# EAGLE library part TC191* (library infineon-tricore)
32 bit TriCore based microcontroller/DSP which is mainly designed for automotive telematics applications. Source: http://www.infineon.com .. TC1910_DS_V1.0.pdf / TC1912_DS_V1.0.pdf
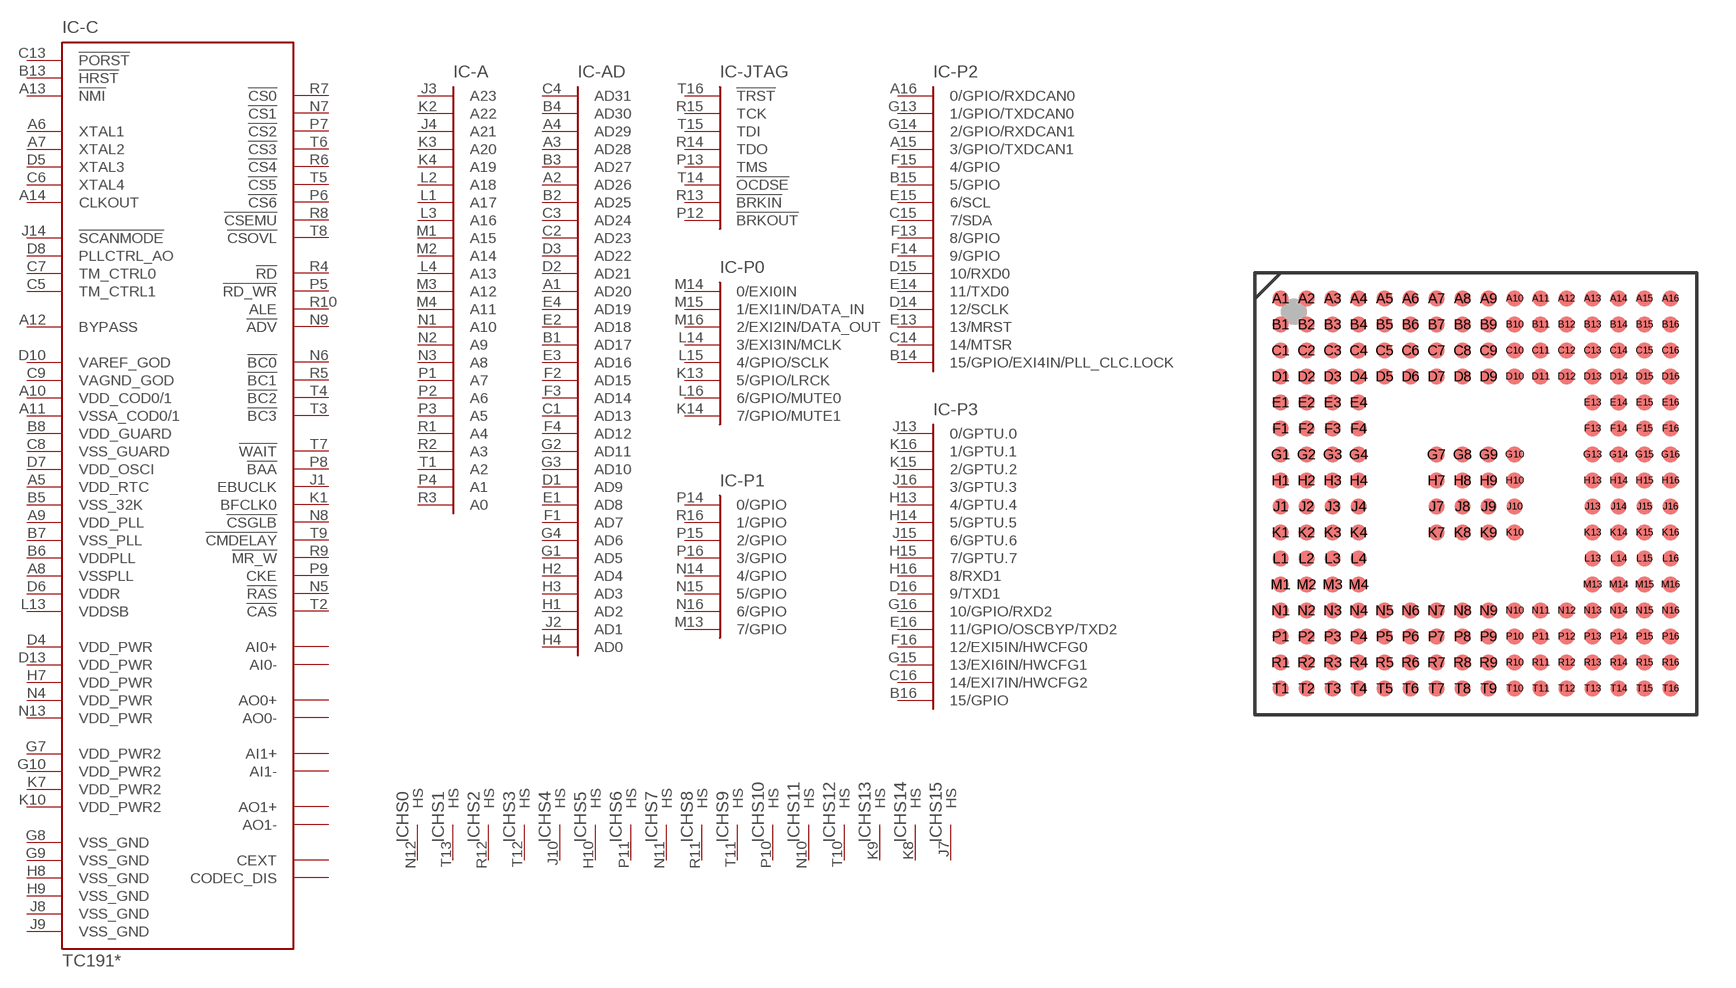
[diagram p7: symbol with the pads of P-LBGA-208-2; footprint P-LBGA-208-2]

Designator prefix IC; gates -C=TC1910 -JTAG=JTAG-OCSD -P0=PORT0-10_12 -P1=PORT1-10_12 -P2=PORT2-10_12 -P3=PORT3-10_12 HS1=HEATSINK HS2=HEATSINK HS3=HEATSINK HS4=HEATSINK HS5=HEATSINK HS6=HEATSINK HS7=HEATSINK HS8=HEATSINK HS9=HEATSINK HS10=HEATSINK HS11=HEATSINK HS12=HEATSINK HS13=HEATSINK HS14=HEATSINK HS15=HEATSINK HS0=HEATSINK -A=A23 -AD=AD31

## TC1910, TC1912  [P-LBGA-208-2]
A1  -AD:AD20
A2  -AD:AD26
A3  -AD:AD28
A4  -AD:AD29
A5  -C:VDD_RTC  in
A6  -C:XTAL1  in
A7  -C:XTAL2  out
A8  -C:VSSPLL  in
A9  -C:VDD_PLL  in
A10  -C:VDD_COD0/1  in
A11  -C:VSSA_COD0/1  in
A12  -C:BYPASS  in
A13  -C:!NMI  in
A14  -C:CLKOUT  out
A15  -P2:3/GPIO/TXDCAN1
A16  -P2:0/GPIO/RXDCAN0
B1  -AD:AD17
B2  -AD:AD25
B3  -AD:AD27
B4  -AD:AD30
B5  -C:VSS_32K  in
B6  -C:VDDPLL  in
B7  -C:VSS_PLL  in
B8  -C:VDD_GUARD  in
B9  -C:AI0-  in
B10  -C:AI1-  in
B11  -C:AO1+  out
B12  -C:AO0-  out
B13  -C:!HRST
B14  -P2:15/GPIO/EXI4IN/PLL_CLC.LOCK
B15  -P2:5/GPIO
B16  -P3:15/GPIO
C1  -AD:AD13
C2  -AD:AD23
C3  -AD:AD24
C4  -AD:AD31
C5  -C:TM_CTRL1  in
C6  -C:XTAL4  out
C7  -C:TM_CTRL0  in
C8  -C:VSS_GUARD  in
C9  -C:VAGND_GOD  in
C10  -C:AI1+  in
C11  -C:AO0+  out
C12  -C:CODEC_DIS  in
C13  -C:!PORST  in
C14  -P2:14/MTSR
C15  -P2:7/SDA
C16  -P3:14/EXI7IN/HWCFG2
D1  -AD:AD9
D2  -AD:AD21
D3  -AD:AD22
D4  -C:VDD_PWR  in
D5  -C:XTAL3  in
D6  -C:VDDR  in
D7  -C:VDD_OSCI  in
D8  -C:PLLCTRL_AO  in
D9  -C:AI0+  in
D10  -C:VAREF_GOD  in
D11  -C:AO1-  out
D12  -C:CEXT  in
D13  -C:VDD_PWR  in
D14  -P2:12/SCLK
D15  -P2:10/RXD0
D16  -P3:9/TXD1
E1  -AD:AD8
E2  -AD:AD18
E3  -AD:AD16
E4  -AD:AD19
E13  -P2:13/MRST
E14  -P2:11/TXD0
E15  -P2:6/SCL
E16  -P3:11/GPIO/OSCBYP/TXD2
F1  -AD:AD7
F2  -AD:AD15
F3  -AD:AD14
F4  -AD:AD12
F13  -P2:8/GPIO
F14  -P2:9/GPIO
F15  -P2:4/GPIO
F16  -P3:12/EXI5IN/HWCFG0
G1  -AD:AD5
G2  -AD:AD11
G3  -AD:AD10
G4  -AD:AD6
G7  -C:VDD_PWR2  in
G8  -C:VSS_GND  in
G9  -C:VSS_GND  in
G10  -C:VDD_PWR2  in
G13  -P2:1/GPIO/TXDCAN0
G14  -P2:2/GPIO/RXDCAN1
G15  -P3:13/EXI6IN/HWCFG1
G16  -P3:10/GPIO/RXD2
H1  -AD:AD2
H2  -AD:AD4
H3  -AD:AD3
H4  -AD:AD0
H7  -C:VDD_PWR  in
H8  -C:VSS_GND  in
H9  -C:VSS_GND  in
H10  HS5:HS  in
H13  -P3:4/GPTU.4
H14  -P3:5/GPTU.5
H15  -P3:7/GPTU.7
H16  -P3:8/RXD1
J1  -C:EBUCLK  out
J2  -AD:AD1
J3  -A:A23  out
J4  -A:A21  out
J7  HS15:HS  in
J8  -C:VSS_GND  in
J9  -C:VSS_GND  in
J10  HS4:HS  in
J13  -P3:0/GPTU.0
J14  -C:!SCANMODE  in
J15  -P3:6/GPTU.6
J16  -P3:3/GPTU.3
K1  -C:BFCLK0  out
K2  -A:A22  out
K3  -A:A20  out
K4  -A:A19  out
K7  -C:VDD_PWR2  in
K8  HS14:HS  in
K9  HS13:HS  in
K10  -C:VDD_PWR2  in
K13  -P0:5/GPIO/LRCK
K14  -P0:7/GPIO/MUTE1
K15  -P3:2/GPTU.2
K16  -P3:1/GPTU.1
L1  -A:A17  out
L2  -A:A18  out
L3  -A:A16  out
L4  -A:A13  out
L13  -C:VDDSB  in
L14  -P0:3/EXI3IN/MCLK
L15  -P0:4/GPIO/SCLK
L16  -P0:6/GPIO/MUTE0
M1  -A:A15  out
M2  -A:A14  out
M3  -A:A12  out
M4  -A:A11  out
M13  -P1:7/GPIO
M14  -P0:0/EXI0IN
M15  -P0:1/EXI1IN/DATA_IN
M16  -P0:2/EXI2IN/DATA_OUT
N1  -A:A10  out
N2  -A:A9  out
N3  -A:A8  out
N4  -C:VDD_PWR  in
N5  -C:!RAS  out
N6  -C:!BC0
N7  -C:!CS1  out
N8  -C:!CSGLB  out
N9  -C:!ADV  out
N10  HS11:HS  in
N11  HS7:HS  in
N12  HS0:HS  in
N13  -C:VDD_PWR  in
N14  -P1:4/GPIO
N15  -P1:5/GPIO
N16  -P1:6/GPIO
P1  -A:A7  out
P2  -A:A6  out
P3  -A:A5  out
P4  -A:A1  out
P5  -C:!RD_WR
P6  -C:!CS6  out
P7  -C:!CS2  out
P8  -C:!BAA  out
P9  -C:CKE  out
P10  HS10:HS  in
P11  HS6:HS  in
P12  -JTAG:!BRKOUT  out
P13  -JTAG:TMS  in
P14  -P1:0/GPIO
P15  -P1:2/GPIO
P16  -P1:3/GPIO
R1  -A:A4  out
R2  -A:A3  out
R3  -A:A0  out
R4  -C:!RD
R5  -C:!BC1
R6  -C:!CS4  out
R7  -C:!CS0  out
R8  -C:!CSEMU  out
R9  -C:!MR_W  out
R10  -C:ALE  out
R11  HS8:HS  in
R12  HS2:HS  in
R13  -JTAG:!BRKIN  in
R14  -JTAG:TDO  out
R15  -JTAG:TCK  in
R16  -P1:1/GPIO
T1  -A:A2  out
T2  -C:!CAS  out
T3  -C:!BC3
T4  -C:!BC2
T5  -C:!CS5  out
T6  -C:!CS3  out
T7  -C:!WAIT
T8  -C:!CSOVL  out
T9  -C:!CMDELAY  in
T10  HS12:HS  in
T11  HS9:HS  in
T12  HS3:HS  in
T13  HS1:HS  in
T14  -JTAG:!OCDSE  in
T15  -JTAG:TDI  in
T16  -JTAG:!TRST  in

## Footprint P-LBGA-208-2 (pad centres in mm)
P-LBGA-208-2 Low Profile Plastic Ball Grid Array Package Source: http://www.infineon.com .. TC1130_DS_v031.pdf
smd 0.6 x 0.6: A1 -7.5,7.5; A2 -6.5,7.5; A3 -5.5,7.5; A4 -4.5,7.5; A5 -3.5,7.5; A6 -2.5,7.5; A7 -1.5,7.5; A8 -0.5,7.5; A9 0.5,7.5; A10 1.5,7.5; A11 2.5,7.5; A12 3.5,7.5; A13 4.5,7.5; A14 5.5,7.5; A15 6.5,7.5; A16 7.5,7.5; B1 -7.5,6.5; B2 -6.5,6.5; B3 -5.5,6.5; B4 -4.5,6.5; B5 -3.5,6.5; B6 -2.5,6.5; B7 -1.5,6.5; B8 -0.5,6.5; B9 0.5,6.5; B10 1.5,6.5; B11 2.5,6.5; B12 3.5,6.5; B13 4.5,6.5; B14 5.5,6.5; B15 6.5,6.5; B16 7.5,6.5; C1 -7.5,5.5; C2 -6.5,5.5; C3 -5.5,5.5; C4 -4.5,5.5; C5 -3.5,5.5; C6 -2.5,5.5; C7 -1.5,5.5; C8 -0.5,5.5; C9 0.5,5.5; C10 1.5,5.5; C11 2.5,5.5; C12 3.5,5.5; C13 4.5,5.5; C14 5.5,5.5; C15 6.5,5.5; C16 7.5,5.5; D1 -7.5,4.5; D2 -6.5,4.5; D3 -5.5,4.5; D4 -4.5,4.5; D5 -3.5,4.5; D6 -2.5,4.5; D7 -1.5,4.5; D8 -0.5,4.5; D9 0.5,4.5; D10 1.5,4.5; D11 2.5,4.5; D12 3.5,4.5; D13 4.5,4.5; D14 5.5,4.5; D15 6.5,4.5; D16 7.5,4.5; E1 -7.5,3.5; E2 -6.5,3.5; E3 -5.5,3.5; E4 -4.5,3.5; E13 4.5,3.5; E14 5.5,3.5; E15 6.5,3.5; E16 7.5,3.5; F1 -7.5,2.5; F2 -6.5,2.5; F3 -5.5,2.5; F4 -4.5,2.5; F13 4.5,2.5; F14 5.5,2.5; F15 6.5,2.5; F16 7.5,2.5; G1 -7.5,1.5; G2 -6.5,1.5; G3 -5.5,1.5; G4 -4.5,1.5; G7 -1.5,1.5; G8 -0.5,1.5; G9 0.5,1.5; G10 1.5,1.5; G13 4.5,1.5; G14 5.5,1.5; G15 6.5,1.5; G16 7.5,1.5; H1 -7.5,0.5; H2 -6.5,0.5; H3 -5.5,0.5; H4 -4.5,0.5; H7 -1.5,0.5; H8 -0.5,0.5; H9 0.5,0.5; H10 1.5,0.5; H13 4.5,0.5; H14 5.5,0.5; H15 6.5,0.5; H16 7.5,0.5; J1 -7.5,-0.5; J2 -6.5,-0.5; J3 -5.5,-0.5; J4 -4.5,-0.5; J7 -1.5,-0.5; J8 -0.5,-0.5; J9 0.5,-0.5; J10 1.5,-0.5; J13 4.5,-0.5; J14 5.5,-0.5; J15 6.5,-0.5; J16 7.5,-0.5; K1 -7.5,-1.5; K2 -6.5,-1.5; K3 -5.5,-1.5; K4 -4.5,-1.5; K7 -1.5,-1.5; K8 -0.5,-1.5; K9 0.5,-1.5; K10 1.5,-1.5; K13 4.5,-1.5; K14 5.5,-1.5; K15 6.5,-1.5; K16 7.5,-1.5; L1 -7.5,-2.5; L2 -6.5,-2.5; L3 -5.5,-2.5; L4 -4.5,-2.5; L13 4.5,-2.5; L14 5.5,-2.5; L15 6.5,-2.5; L16 7.5,-2.5; M1 -7.5,-3.5; M2 -6.5,-3.5; M3 -5.5,-3.5; M4 -4.5,-3.5; M13 4.5,-3.5; M14 5.5,-3.5; M15 6.5,-3.5; M16 7.5,-3.5; N1 -7.5,-4.5; N2 -6.5,-4.5; N3 -5.5,-4.5; N4 -4.5,-4.5; N5 -3.5,-4.5; N6 -2.5,-4.5; N7 -1.5,-4.5; N8 -0.5,-4.5; N9 0.5,-4.5; N10 1.5,-4.5; N11 2.5,-4.5; N12 3.5,-4.5; N13 4.5,-4.5; N14 5.5,-4.5; N15 6.5,-4.5; N16 7.5,-4.5; P1 -7.5,-5.5; P2 -6.5,-5.5; P3 -5.5,-5.5; P4 -4.5,-5.5; P5 -3.5,-5.5; P6 -2.5,-5.5; P7 -1.5,-5.5; P8 -0.5,-5.5; P9 0.5,-5.5; P10 1.5,-5.5; P11 2.5,-5.5; P12 3.5,-5.5; P13 4.5,-5.5; P14 5.5,-5.5; P15 6.5,-5.5; P16 7.5,-5.5; R1 -7.5,-6.5; R2 -6.5,-6.5; R3 -5.5,-6.5; R4 -4.5,-6.5; R5 -3.5,-6.5; R6 -2.5,-6.5; R7 -1.5,-6.5; R8 -0.5,-6.5; R9 0.5,-6.5; R10 1.5,-6.5; R11 2.5,-6.5; R12 3.5,-6.5; R13 4.5,-6.5; R14 5.5,-6.5; R15 6.5,-6.5; R16 7.5,-6.5; T1 -7.5,-7.5; T2 -6.5,-7.5; T3 -5.5,-7.5; T4 -4.5,-7.5; T5 -3.5,-7.5; T6 -2.5,-7.5; T7 -1.5,-7.5; T8 -0.5,-7.5; T9 0.5,-7.5; T10 1.5,-7.5; T11 2.5,-7.5; T12 3.5,-7.5; T13 4.5,-7.5; T14 5.5,-7.5; T15 6.5,-7.5; T16 7.5,-7.5